# Altium footprint library Calcul8_PCB.PcbLib: 15 footprints
Each footprint in its own frame and in the unit in brackets; x right, y up, seen from the top. Pads: shape width x height; smd on the part's side, far side on the other; paste and mask are expansions set on the pad; w line width, h text height; cw(c..) or ccw(c..) is an arc to the next point about the centre after c.
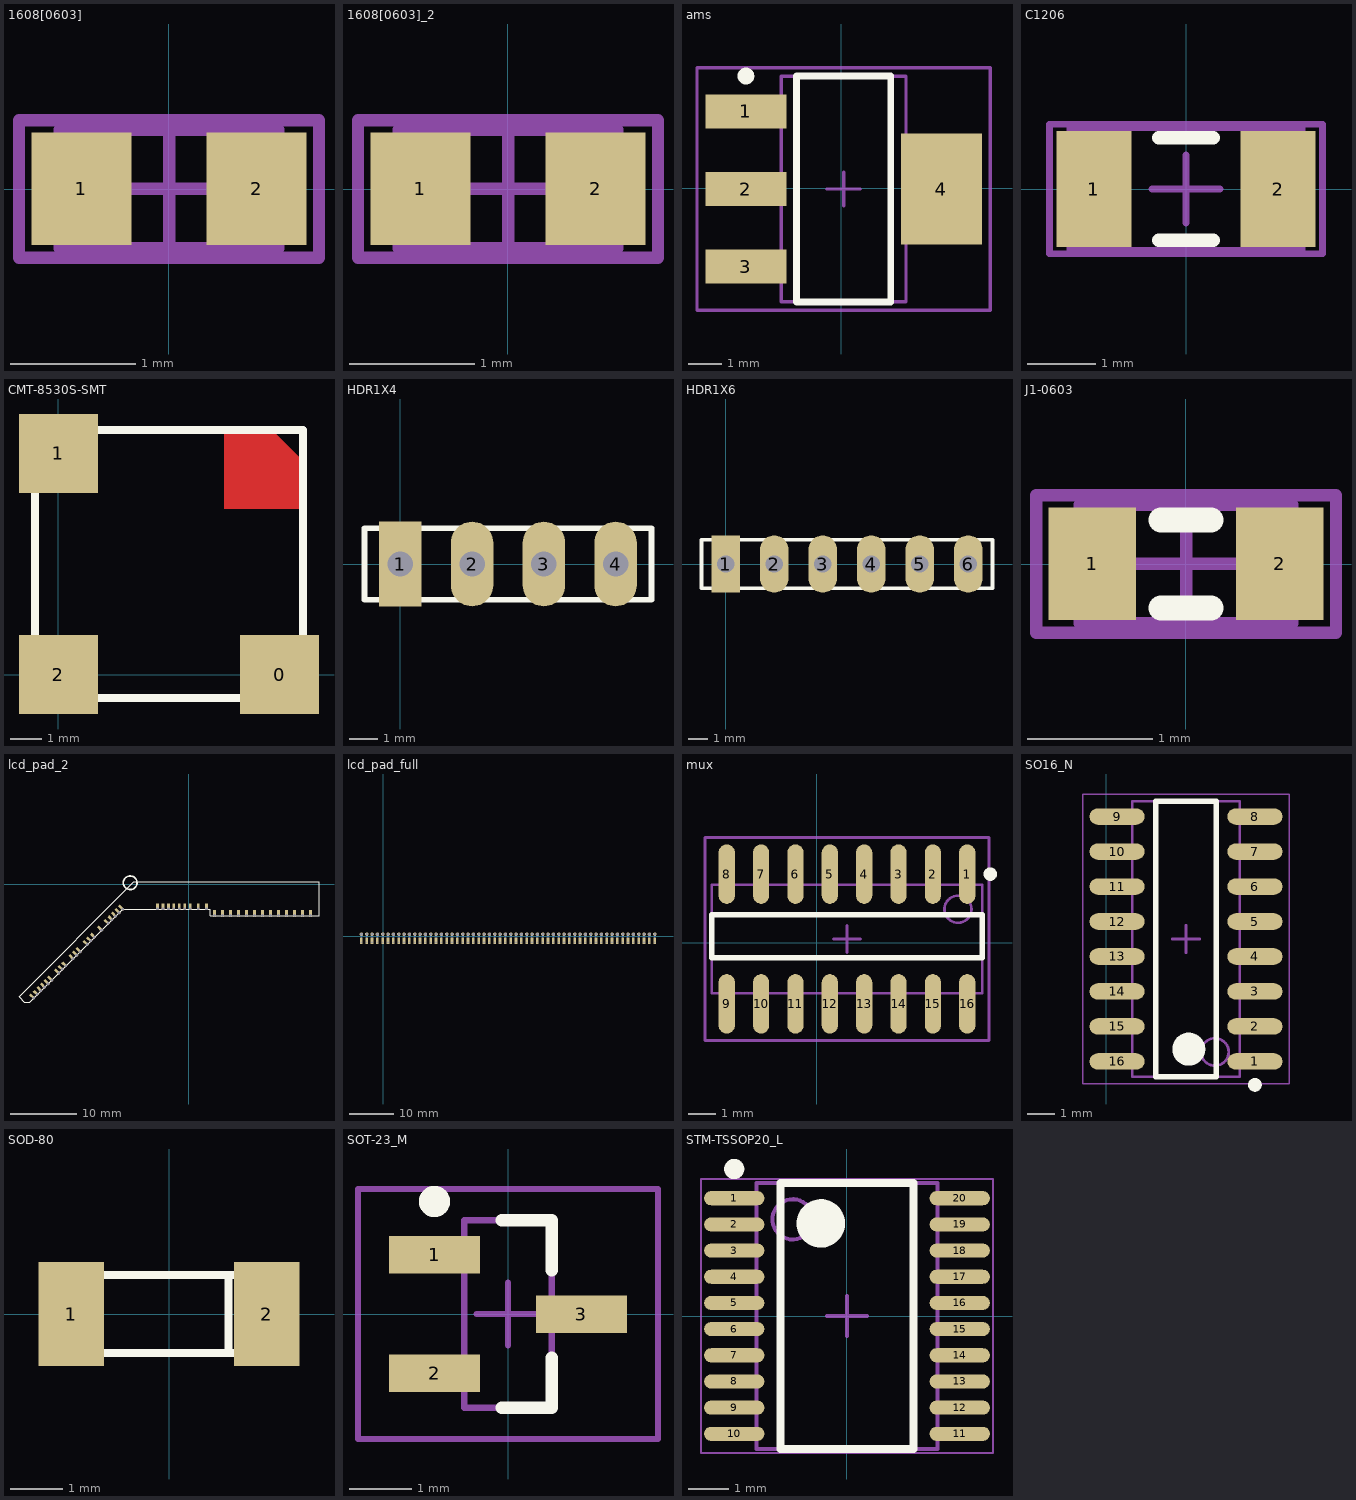
[diagram p0: the footprints below, top view; thin cyan lines are the x and y axes]

## 1608[0603] [mm]
pads (2):
  rect 0.8x0.9 smd: 1(-0.7,0) 2(0.7,0)
Mechanical 13:
  lines w0.1: -0.875,-0.475 0.875,-0.475 0.875,0.475 -0.875,0.475 -0.875,-0.475
Mechanical 15:
  lines w0.1: -0.475,0 0.475,0 ; 0,-0.475 0,0.475 ; -1.2,-0.55 1.2,-0.55 1.2,0.55 -1.2,0.55 -1.2,-0.55
3D body: height 1.3, standoff 0, extent -0.875,-0.475 0.875,0.475

## 1608[0603]_2 [mm]
pads (2):
  rect 0.8x0.9 smd: 1(-0.7,0) 2(0.7,0)
Mechanical 13:
  lines w0.1: -0.875,-0.475 -0.875,0.475 0.875,0.475 0.875,-0.475 -0.875,-0.475
Mechanical 15:
  lines w0.1: -0.475,0 0.475,0 ; 0,-0.475 0,0.475 ; -1.2,-0.55 -1.2,0.55 1.2,0.55 1.2,-0.55 -1.2,-0.55
3D body: height 1.3, standoff 0, extent -0.875,-0.475 0.875,0.475

## ams [mm]
pads (4):
  rect 2.4x1 smd: 1(-2.831,2.285) 2(-2.831,-0.015) 3(-2.831,-2.315)
  rect 2.4x3.3 smd: 4(2.969,-0.015)
Top Overlay:
  circle w0.25: c-2.831,3.335 r0.125
  lines w0.2: -1.331,-3.365 1.469,-3.365 1.469,3.335 -1.331,3.335 -1.331,-3.365
Mechanical 13:
  lines w0.1: -1.781,-3.365 1.919,-3.365 1.919,3.335 -1.781,3.335 -1.781,-3.365
Mechanical 15:
  lines w0.1: -0.431,-0.015 0.569,-0.015 ; 0.069,-0.515 0.069,0.485 ; -4.281,-3.615 4.419,-3.615 4.419,3.585 -4.281,3.585 -4.281,-3.615
3D body: height 1.7, standoff 0, extent -1.781,-3.365 1.919,3.335

## C1206 [mm]
pads (2):
  rect 1.1x1.7 smd: 1(-1.35,0) 2(1.35,0)
Top Overlay:
  lines w0.2: -0.4,-0.75 0.4,-0.75 ; -0.4,0.75 0.4,0.75
Mechanical 13:
  lines w0.1: -1.7,-0.9 1.7,-0.9 1.7,0.9 -1.7,0.9 -1.7,-0.9
Mechanical 15:
  lines w0.1: -0.5,0 0.5,0 ; 0,-0.5 0,0.5 ; -2,-0.95 2,-0.95 2,0.95 -2,0.95 -2,-0.95
3D body: height 1.3, standoff 0, extent -1.7,-0.9 1.7,0.9

## CMT-8530S-SMT [mm]
pads (3):
  rect 2.5x2.5 smd: 0(7,0) 1(0,7) 2(0,0)
Top Layer:
  region: 5.25,7.75 6.75,7.75 7.75,6.75 7.75,5.25 5.25,5.25
Top Overlay:
  lines w0.254: -0.75,-0.75 7.75,-0.75 7.75,7.75 0.232,7.75 -0.75,6.768 -0.75,-0.75

## HDR1X4 [mm]
pads (4):
  rect 1.5x3 hole 0.9: 1(0,0)
  oval 1.5x3 hole 0.9: 2(2.54,0) 3(5.08,0) 4(7.62,0)
Top Overlay:
  lines w0.2: -1.27,-1.27 8.89,-1.27 8.89,1.27 -1.27,1.27 -1.27,-1.27

## HDR1X6 [mm]
pads (6):
  rect 1.5x3 hole 0.9: 1(0,0)
  oval 1.5x3 hole 0.9: 2(2.54,0) 3(5.08,0) 4(7.62,0) 5(10.16,0) 6(12.7,0)
Top Overlay:
  lines w0.2: -1.27,-1.27 13.97,-1.27 13.97,1.27 -1.27,1.27 -1.27,-1.27

## J1-0603 [mm]
pads (2):
  rect 0.7x0.9 smd: 1(-0.75,0) 2(0.75,0)
Top Overlay:
  lines w0.2: -0.2,-0.35 0.2,-0.35 ; -0.2,0.35 0.2,0.35
Mechanical 13:
  lines w0.1: -0.85,-0.475 0.85,-0.475 0.85,0.475 -0.85,0.475 -0.85,-0.475
Mechanical 15:
  lines w0.1: -0.475,0 0.475,0 ; 0,-0.475 0,0.475 ; -1.2,-0.55 1.2,-0.55 1.2,0.55 -1.2,0.55 -1.2,-0.55
3D body: height 0.9, standoff 0, extent -0.85,-0.475 0.85,0.475

## lcd_pad_2 [mm]
pads (43):
  rect 1x0.4 hole 0.4 copper offset -0.212,0.212 rot 135: 4(-23.356,-17.133) 5(-22.819,-16.596) 6(-22.282,-16.059) 7(-21.746,-15.523) 8(-21.209,-14.986) 9(-20.673,-14.45) 11(-19.6,-13.377) 12(-19.063,-12.84) 13(-18.527,-12.304) 15(-17.454,-11.231) 16(-16.917,-10.694) 17(-16.38,-10.157) 19(-15.307,-9.084) 20(-14.771,-8.548) 21(-14.234,-8.011) 23(-13.161,-6.938) 24(-12.137,-5.914) 25(-11.599,-5.376) 26(-11.06,-4.837) 27(-10.521,-4.298) 28(-9.982,-3.759)
  rect 0.4x1 hole 0.4 copper offset 0,0.3: 29(-4.724,-3.708) 30(-3.903,-3.708) 31(-3.082,-3.708) 32(-2.261,-3.708) 33(-1.439,-3.708) 34(-0.618,-3.708) 35(0.203,-3.708) 36(1.422,-3.734) 37(2.642,-3.734) 38(3.861,-4.724) 39(5.065,-4.724) 40(6.27,-4.724) 41(7.474,-4.724) 42(8.678,-4.724) 43(9.883,-4.724) 44(11.087,-4.724) 45(12.291,-4.724) 46(13.496,-4.724) 47(14.7,-4.724) 48(15.905,-4.724) 49(17.109,-4.724) 50(18.313,-4.724)
Top Overlay:
  circle w0.254: c-8.839,0.203 r1.028
  lines w0.1: -25.578,-16.967 -24.79,-17.755 -23.978,-17.755 -23.302,-17.079 -9.982,-3.759 3.226,-3.759 3.226,-4.775 19.583,-4.775 19.583,0.33 -8.28,0.33 -25.578,-16.967

## lcd_pad_full [mm]
pads (112):
  rect 0.6x1.5 hole 0.4 copper offset 0,0.3: 1(-4.975,-1.35) 2(-3.775,-1.35) 3(-2.575,-1.35) 4(-1.375,-1.35) 5(-0.175,-1.35) 6(1.025,-1.35) 7(2.225,-1.35) 8(3.425,-1.35) 9(4.625,-1.35) 10(5.825,-1.35) 11(7.025,-1.35) 12(8.225,-1.35) 13(9.425,-1.35) 14(10.625,-1.35) 15(11.825,-1.35) 16(13.025,-1.35) 17(14.225,-1.35) 18(15.425,-1.35) 19(16.625,-1.35) 20(17.825,-1.35) 21(19.025,-1.35) 22(20.225,-1.35) 23(21.425,-1.35) 24(22.625,-1.35) 25(23.825,-1.35) 26(25.025,-1.35) 27(26.225,-1.35) 28(27.425,-1.35) 29(28.625,-1.35) 30(29.825,-1.35) 31(31.025,-1.35) 32(32.225,-1.35) 33(33.425,-1.35) 34(34.625,-1.35) 35(35.825,-1.35) 36(37.025,-1.35) 37(38.225,-1.35) 38(39.425,-1.35) 39(40.625,-1.35) 40(41.825,-1.35) 41(43.025,-1.35) 42(44.225,-1.35) 43(45.425,-1.35) 44(46.625,-1.35) 45(47.825,-1.35) 46(49.025,-1.35) 47(50.225,-1.35) 48(51.425,-1.35) 49(52.625,-1.35) 50(53.825,-1.35) 51(55.025,-1.35) 52(56.225,-1.35) 53(57.425,-1.35) 54(58.625,-1.35) 55(59.825,-1.35) 56(61.025,-1.35)
  round 0.8 hole 0.6: 1(-4.95,0.45) 2(-3.75,0.45) 3(-2.55,0.45) 4(-1.35,0.45) 5(-0.15,0.45) 6(1.05,0.45) 7(2.25,0.45) 8(3.45,0.45) 9(4.65,0.45) 10(5.85,0.45) 11(7.05,0.45) 12(8.25,0.45) 13(9.45,0.45) 14(10.65,0.45) 15(11.85,0.45) 16(13.05,0.45) 17(14.25,0.45) 18(15.45,0.45) 19(16.65,0.45) 20(17.85,0.45) 21(19.05,0.45) 22(20.25,0.45) 23(21.45,0.45) 24(22.65,0.45) 25(23.85,0.45) 26(25.05,0.45) 27(26.25,0.45) 28(27.45,0.45) 29(28.65,0.45) 30(29.85,0.45) 31(31.05,0.45) 32(32.25,0.45) 33(33.45,0.45) 34(34.65,0.45) 35(35.85,0.45) 36(37.05,0.45) 37(38.25,0.45) 38(39.45,0.45) 39(40.65,0.45) 40(41.85,0.45) 41(43.05,0.45) 42(44.25,0.45) 43(45.45,0.45) 44(46.65,0.45) 45(47.85,0.45) 46(49.05,0.45) 47(50.25,0.45) 48(51.45,0.45) 49(52.65,0.45) 50(53.85,0.45) 51(55.05,0.45) 52(56.25,0.45) 53(57.45,0.45) 54(58.65,0.45) 55(59.85,0.45) 56(61.05,0.45)
Bottom Layer:
  lines w0.254: -4.925,-1.5 -4.925,0.275 ; -3.7,-1.5 -3.7,0.3 ; -2.5,-1.5 -2.5,0.25 ; -1.3,-1.5 -1.3,-1.35 -1.3,0.25 ; -0.1,-1.5 -0.1,-1.35 -0.1,0.225 ; 1.125,-1.5 1.125,-1.35 1.125,0.275 ; 2.35,-1.5 2.35,-1.35 2.35,0.3 ; 3.55,-1.5 3.55,-1.35 3.55,0.25 ; 4.75,-1.5 4.75,-1.35 4.75,0.25 ; 5.95,-1.5 5.95,0.225 ; 7.075,-1.5 7.075,-1.35 7.075,0.275 ; 8.3,-1.5 8.3,-1.35 8.3,0.3 ; 9.5,-1.5 9.5,-1.35 9.5,0.25 ; 10.7,-1.5 10.7,0.25 ; 11.9,-1.5 11.9,-1.35 11.9,0.225 ; 13.1,-1.5 13.1,-1.35 13.1,0.275 ; 14.325,-1.5 14.325,-1.35 14.325,0.3 ; 15.525,-1.5 15.525,0.25 ; 16.725,-1.5 16.725,-1.35 16.725,0.25 ; 17.925,-1.5 17.925,-1.35 17.925,0.225 ; 19.1,-1.5 19.1,-1.35 19.1,0.275 ; 20.325,-1.5 20.325,0.3 ; 21.525,-1.5 21.525,-1.35 21.525,0.25 ; 22.725,-1.5 22.725,-1.35 22.725,0.25 ; 23.925,-1.5 23.925,-1.35 23.925,0.225 ; 25.1,-1.5 25.1,-1.35 25.1,0.275 ; 26.325,-1.5 26.325,-1.35 26.325,0.3 ; 27.525,-1.5 27.525,-1.35 27.525,0.25 ; 28.725,-1.5 28.725,-1.35 28.725,0.25 ; 29.925,-1.5 29.925,-1.35 29.925,0.225 ; 31,-1.5 31,-1.35 31,0.275 ; 32.225,-1.5 32.225,-1.35 32.225,0.3 ; 33.425,-1.5 33.425,-1.35 33.425,0.25 ; 34.625,-1.5 34.625,-1.35 34.625,0.25 ; 35.825,-1.5 35.825,-1.35 35.825,0.225 ; 37.05,-1.5 37.05,-1.35 37.05,0.275 ; 38.275,-1.5 38.275,-1.35 38.275,0.3 ; 39.475,-1.5 39.475,-1.35 39.475,0.25 ; 40.675,-1.5 40.675,-1.35 40.675,0.25 ; 41.875,-1.5 41.875,-1.35 41.875,0.225 ; 43,-1.5 43,-1.35 43,0.275 ; 44.225,-1.5 44.225,-1.35 44.225,0.3 ; 45.425,-1.5 45.425,-1.35 45.425,0.25 ; 46.625,-1.5 46.625,-1.35 46.625,0.25 ; 47.825,-1.5 47.825,-1.35 47.825,0.225 ; 49.025,-1.5 49.025,-1.35 49.025,0.275 ; 50.25,-1.5 50.25,0.3 ; 51.45,-1.5 51.45,-1.35 51.45,0.25 ; 52.65,-1.5 52.65,-1.35 52.65,0.25 ; 53.85,-1.5 53.85,-1.35 53.85,0.225 ; 55.025,-1.5 55.025,0.275 ; 56.25,-1.5 56.25,0.3 ; 57.45,-1.5 57.45,0.25 ; 58.65,-1.5 58.65,0.25 ; 59.85,-1.5 59.85,0.225 ; 61.025,-1.5 61.025,0.275

## mux [mm]
pads (16):
  oval 0.6x2.2 smd: 1(5.563,2.54) 2(4.293,2.54) 3(3.023,2.54) 4(1.753,2.54) 5(0.483,2.54) 6(-0.787,2.54) 7(-2.057,2.54) 8(-3.327,2.54) 9(-3.327,-2.26) 10(-2.057,-2.26) 11(-0.787,-2.26) 12(0.483,-2.26) 13(1.753,-2.26) 14(3.023,-2.26) 15(4.293,-2.26) 16(5.563,-2.26)
Top Overlay:
  circle w0.25: c6.413,2.54 r0.125
  lines w0.2: -3.882,-0.55 -3.882,1.04 6.118,1.04 6.118,-0.55 -3.882,-0.55
Mechanical 13:
  circle w0.1: c5.218,1.24 r0.5
  lines w0.1: -3.882,-1.86 -3.882,2.14 6.118,2.14 6.118,-1.86 -3.882,-1.86
Mechanical 15:
  lines w0.1: 0.618,0.14 1.618,0.14 ; 1.118,-0.36 1.118,0.64 ; -4.132,-3.61 -4.132,3.89 6.368,3.89 6.368,-3.61 -4.132,-3.61
3D body: height 1.75, standoff 0, extent -3.882,-1.86 6.118,2.14

## SO16_N [mm]
pads (16):
  oval 2x0.6 smd: 1(5.389,6.069) 2(5.389,7.339) 3(5.389,8.609) 4(5.389,9.879) 5(5.389,11.149) 6(5.389,12.419) 7(5.389,13.689) 8(5.389,14.959) 9(0.389,14.959) 10(0.389,13.689) 11(0.389,12.419) 12(0.389,11.149) 13(0.389,9.879) 14(0.389,8.609) 15(0.389,7.339) 16(0.389,6.069)
Top Overlay:
  circle w0.25: c5.389,5.219 r0.125
  circle w0.6: c2.989,6.514 r0.3
  lines w0.2: 1.789,5.514 1.789,15.514 3.989,15.514 3.989,5.514 1.789,5.514
Mechanical 13:
  circle w0.1: c3.939,6.414 r0.5
  lines w0.1: 0.939,5.514 0.939,15.514 4.839,15.514 4.839,5.514 0.939,5.514
Mechanical 15:
  lines w0.05: -0.861,5.264 -0.861,15.764 6.639,15.764 6.639,5.264 -0.861,5.264
  lines w0.1: 2.389,10.514 3.389,10.514 ; 2.889,10.014 2.889,11.014
3D body: height 1.75, standoff 0.1, extent 0.939,5.514 4.839,15.514

## SOD-80 [mm]
pads (2):
  rect 1.25x2 smd: 1(-1.875,0) 2(1.875,0)
Top Overlay:
  lines w0.152: 1.143,-0.75 1.143,0.75 ; -1.75,-0.75 -1.75,0.75 1.75,0.75 1.75,-0.75 -1.75,-0.75

## SOT-23_M [mm]
pads (3):
  rect 1.45x0.6 smd: 1(-1.175,0.95) 2(-1.175,-0.95) 3(1.175,0)
Top Overlay:
  circle w0.25: c-1.175,1.8 r0.125
  lines w0.2: -0.1,-1.5 0.7,-1.5 0.7,-0.7 ; -0.1,1.5 0.7,1.5 0.7,0.7
Mechanical 13:
  lines w0.1: -0.7,-1.5 -0.7,1.5 0.7,1.5 0.7,-1.5 -0.7,-1.5
Mechanical 15:
  lines w0.1: -0.5,0 0.5,0 ; 0,-0.5 0,0.5 ; -2.4,-2 -2.4,2 2.4,2 2.4,-2 -2.4,-2
3D body: height 1.1, standoff 0, extent -0.7,-1.5 0.7,1.5

## STM-TSSOP20_L [mm]
pads (20):
  oval 1.5x0.35 smd: 1(-2.8,2.925) 2(-2.8,2.275) 3(-2.8,1.625) 4(-2.8,0.975) 5(-2.8,0.325) 6(-2.8,-0.325) 7(-2.8,-0.975) 8(-2.8,-1.625) 9(-2.8,-2.275) 10(-2.8,-2.925) 11(2.8,-2.925) 12(2.8,-2.275) 13(2.8,-1.625) 14(2.8,-0.975) 15(2.8,-0.325) 16(2.8,0.325) 17(2.8,0.975) 18(2.8,1.625) 19(2.8,2.275) 20(2.8,2.925)
Top Overlay:
  circle w0.6: c-0.65,2.3 r0.3
  circle w0.25: c-2.8,3.65 r0.125
  lines w0.2: -1.65,-3.3 1.65,-3.3 1.65,3.3 -1.65,3.3 -1.65,-3.3
Mechanical 13:
  circle w0.1: c-1.35,2.4 r0.5
  lines w0.1: -2.25,-3.3 2.25,-3.3 2.25,3.3 -2.25,3.3 -2.25,-3.3
Mechanical 15:
  lines w0.05: -3.625,-3.4 3.625,-3.4 3.625,3.4 -3.625,3.4 -3.625,-3.4
  lines w0.1: -0.5,0 0.5,0 ; 0,-0.5 0,0.5
3D body: height 1.2, standoff 0.05, extent -2.25,-3.3 2.25,3.3